# Altium schematic symbol library SCHlib.SchLib: 19 symbols
Pins are listed as number, name and electrical type; pins without a type are passive.

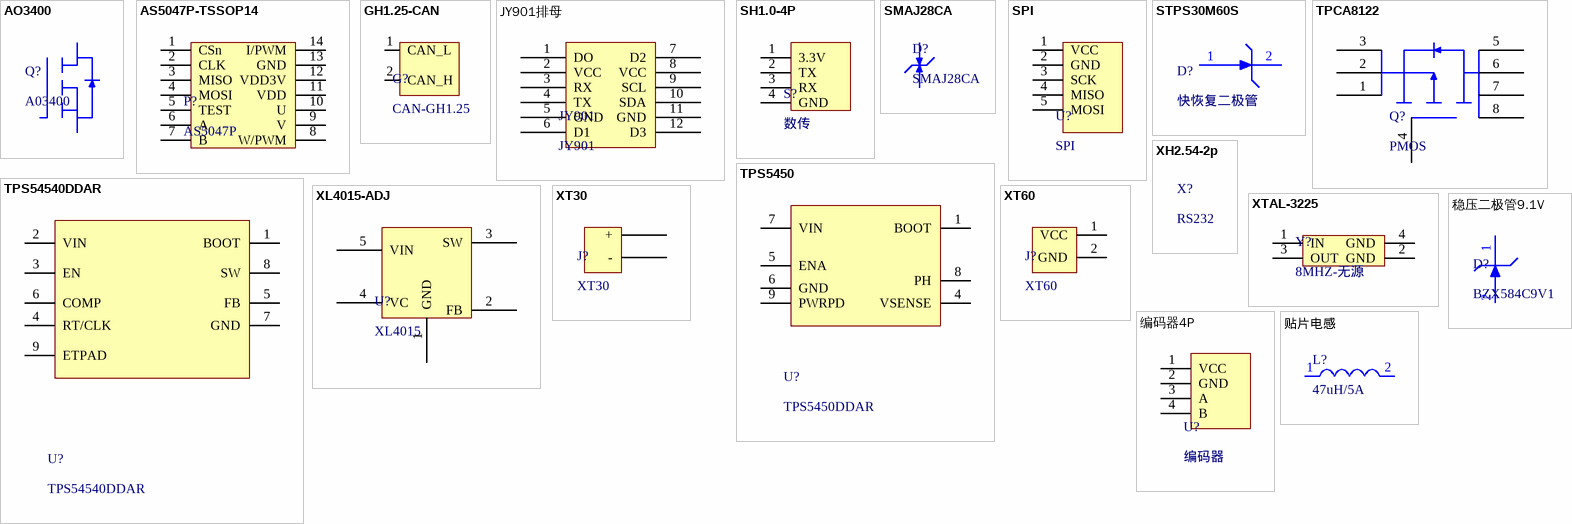
[diagram p0: symbols AO3400 to 贴片电感]

## AO3400
designator Q?, comment A03400
footprint AO3400
pins: 1 G, 2 D, 3 S

## AS5047P-TSSOP14
designator P?, comment AS5047P
footprint TSSOP-14
pins: 1 CSn, 2 CLK, 3 MISO, 4 MOSI, 5 TEST, 6 A, 7 B, 8 W/PWM, 9 V, 10 U, 11 VDD, 12 VDD3V, 13 GND, 14 I/PWM

## GH1.25-CAN
designator G?, comment CAN-GH1.25
footprint GH1.25_1*2_lishi
pins: 1 CAN_L, 2 CAN_H

## JY901排母
designator JY901, comment JY901
footprint PCBComponent_1
pins: 1 DO, 2 VCC, 3 RX, 4 TX, 5 GND, 6 D1, 7 D2, 8 VCC, 9 SCL, 10 SDA, 11 GND, 12 D3

## SH1.0-4P
designator S?, comment 数传
footprint SH1.0-4p
pins: 1 3.3V, 2 TX, 3 RX, 4 GND

## SMAJ28CA
designator D?
footprint SMAJ28CA
pins: 1, 2

## SPI
designator U?
footprint MX2.54-4P直针
footprint MX2.54-5P直针
pins: 1 VCC, 2 GND, 3 SCK, 4 MISO, 5 MOSI

## STPS30M60S
designator D?, comment 快恢复二极管
footprint STPS30M60S
pins: 1 A, 2 K

## TPCA8122
designator Q?, comment PMOS
footprint TPCA8122
pins: 1, 2, 3, 4, 5, 6, 7, 8

## TPS5450
designator U?, comment TPS5450DDAR
footprint TPS5450
pins: 1 BOOT, 4 VSENSE, 5 ENA, 6 GND, 7 VIN, 8 PH, 9 PWRPD

## TPS54540DDAR
designator U?
footprint TPS54540DDAR
pins: 1 BOOT, 2 VIN, 3 EN, 4 RT/CLK, 5 FB, 6 COMP, 7 GND, 8 SW, 9 ETPAD

## XH2.54-2p
designator X?, comment RS232

## XL4015-ADJ
designator U?, comment XL4015
footprint TO-263-5L(D2PAK)
pins: 1 GND, 2 FB, 3 SW, 4 VC, 5 VIN

## XT30
designator J?
footprint XT30
pins: 0 -, 1 +

## XT60
designator J?
footprint XT60-母头
pins: 1 VCC, 2 GND

## XTAL-3225
designator Y?, comment 8MHZ-无源
footprint XTAL3225   无源
pins: 1 IN, 2 GND, 3 OUT, 4 GND

## 稳压二极管9.1V
designator D?, comment BZX584C9V1
footprint BZX584C9V1
pins: 1 9, 2

## 编码器4P
designator U?, comment 编码器
footprint MX2.54-4P直针
pins: 1 VCC, 2 GND, 3 A, 4 B

## 贴片电感
designator L?, comment 47uH/5A
footprint 贴片电感
pins: 1 VIN, 2 VIN